# Altium schematic symbol library AD8561.Schlib: 1 symbol
Pins are listed as number, name and electrical type; pins without a type are passive.

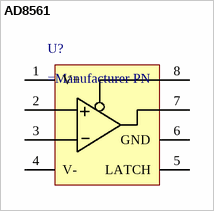
[diagram p0: symbol AD8561]

## AD8561
designator U?
Comparator, Single, UltraFast
pins: 1 V+, 2 +, 3 -, 4 V-, 5 LATCH, 6 GND, 7 Q, 8 ~{Q}